# EAGLE library part NRF905 (library IC)
IC RF TXRX ISM<1GHZ 32VFQFN Manufacturer's datasheet <https://infocenter.nordicsemi.com/pdf/nRF905_PS_v1.5.pdf>
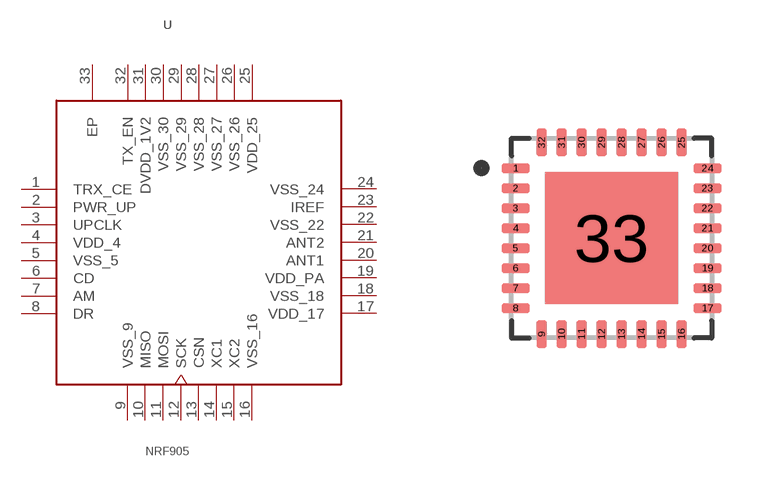
[diagram p25: symbol with the pads of VQFN_32; footprint VQFN_32]

Designator prefix U

## NRF905 (CREATED_BY: PCBLayout.com; DIGI_KEY_PART_NUMBER: 1490-1028-ND; MANUFACTURER: Nordic Semiconductor ASA; MPN: NRF905; PACKAGE: VFQFN-32)  [VQFN_32]
1  TRX_CE  in
2  PWR_UP  in
3  UPCLK  out
4  VDD_4  pwr
5  VSS_5  pwr
6  CD  out
7  AM  out
8  DR  out
9  VSS_9  pwr
10  MISO  out
11  MOSI  in
12  SCK  pas
13  CSN  pas
14  XC1  in
15  XC2  out
16  VSS_16  pwr
17  VDD_17  pwr
18  VSS_18  pwr
19  VDD_PA  pwr
20  ANT1  pas
21  ANT2  pas
22  VSS_22  pwr
23  IREF  in
24  VSS_24  pwr
25  VDD_25  pwr
26  VSS_26  pwr
27  VSS_27  pwr
28  VSS_28  pwr
29  VSS_29  pwr
30  VSS_30  pwr
31  DVDD_1V2  pwr
32  TX_EN  in
33  EP  pwr

## Footprint VQFN_32 (pad centres in mm)
Quad Flat No-Lead (QFN with Tab), 0.50 mm pitch; square, 8 pin X 8 pin, 5.00 mm L X 5.00 mm W X 0.90 mm H body PCB Libraries Packages
smd 0.71 x 0.26: 1 -2.4,1.75; 2 -2.4,1.25; 3 -2.4,0.75; 4 -2.4,0.25; 5 -2.4,-0.25; 6 -2.4,-0.75; 7 -2.4,-1.25; 8 -2.4,-1.75; 17 2.4,-1.75; 18 2.4,-1.25; 19 2.4,-0.75; 20 2.4,-0.25; 21 2.4,0.25; 22 2.4,0.75; 23 2.4,1.25; 24 2.4,1.75
smd 0.26 x 0.71: 9 -1.75,-2.4; 10 -1.25,-2.4; 11 -0.75,-2.4; 12 -0.25,-2.4; 13 0.25,-2.4; 14 0.75,-2.4; 15 1.25,-2.4; 16 1.75,-2.4; 25 1.75,2.4; 26 1.25,2.4; 27 0.75,2.4; 28 0.25,2.4; 29 -0.25,2.4; 30 -0.75,2.4; 31 -1.25,2.4; 32 -1.75,2.4
smd 3.3 x 3.3: 33 0,0